# EAGLE library part DOMUS (library my_library)
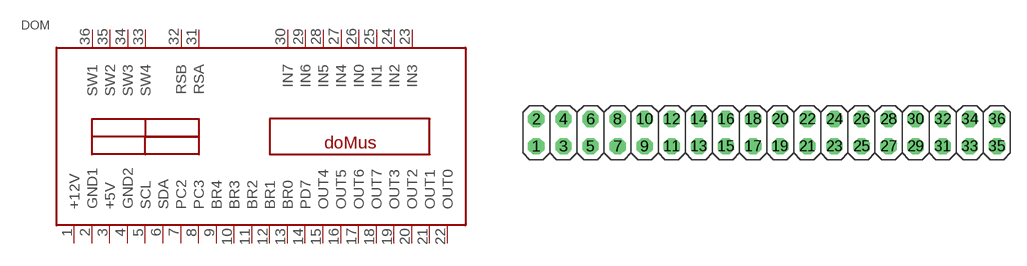
[diagram p4: symbol with the pads of PINHEAD2X18; footprint PINHEAD2X18]

Designator prefix DOM

## DOMUS  [PINHEAD2X18]
1  +12V  pwr
2  GND1  pwr
3  +5V  pwr
4  GND2  pwr
5  SCL
6  SDA
7  PC2
8  PC3
9  BR4
10  BR3
11  BR2
12  BR1
13  BR0
14  PD7
15  OUT4
16  OUT5
17  OUT6
18  OUT7
19  OUT3
20  OUT2
21  OUT1
22  OUT0
23  IN3
24  IN2
25  IN1
26  IN0
27  IN4
28  IN5
29  IN6
30  IN7
31  RSA
32  RSB
33  SW4
34  SW3
35  SW2
36  SW1

## Footprint PINHEAD2X18 (pad centres in mm)
drill 1.016 octagon: 1 -21.59,-1.27; 2 -21.59,1.27; 3 -19.05,-1.27; 4 -19.05,1.27; 5 -16.51,-1.27; 6 -16.51,1.27; 7 -13.97,-1.27; 8 -13.97,1.27; 9 -11.43,-1.27; 10 -11.43,1.27; 11 -8.89,-1.27; 12 -8.89,1.27; 13 -6.35,-1.27; 14 -6.35,1.27; 15 -3.81,-1.27; 16 -3.81,1.27; 17 -1.27,-1.27; 18 -1.27,1.27; 19 1.27,-1.27; 20 1.27,1.27; 21 3.81,-1.27; 22 3.81,1.27; 23 6.35,-1.27; 24 6.35,1.27; 25 8.89,-1.27; 26 8.89,1.27; 27 11.43,-1.27; 28 11.43,1.27; 29 13.97,-1.27; 30 13.97,1.27; 31 16.51,-1.27; 32 16.51,1.27; 33 19.05,-1.27; 34 19.05,1.27; 35 21.59,-1.27; 36 21.59,1.27